# Altium integrated library BLM18AG471SN1D - Copy.IntLib: 1 symbol
Pins are listed as number, name and electrical type; pins without a type are passive.

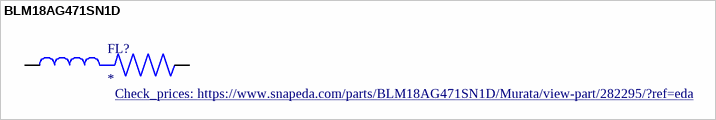
[diagram p0: symbol BLM18AG471SN1D]

## BLM18AG471SN1D
designator FL?
470 Ohms @ 100MHz 1 Ferrite Bead 0603 (1608 Metric) 500mA 350mOhm; MF: Murata Electronics; MP: BLM18AG471SN1D; SnapEDA_Link: https://www.snapeda.com/parts/BLM18AG471SN1D/Murata/view-part/282295/?ref=snap; Value: *; Arrow_Electronics-Purchase-URL: https://snapeda.com/shop?store=Arrow+Electronics&id=282295; Availability: Good; Price: None; Mouser-Purchase-URL: https://snapeda.com/shop?store=Mouser&id=282295; Arrow_Europe-Purchase-URL: https://snapeda.com/shop?store=Arrow+Europe&id=282295; DigiKey-Purchase-URL: https://snapeda.com/shop?store=DigiKey&id=282295; Package: 1608 Murata; Check_prices: https://www.snapeda.com/parts/BLM18AG471SN1D/Murata/view-part/282295/?ref=eda
footprint BEADC1608X95N
pins: 1, 2